# Altium schematic symbol library MC33039.SchLib: 1 symbol
Pins are listed as number, name and electrical type; pins without a type are passive.

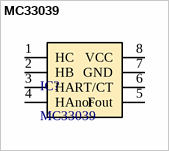
[diagram p0: symbol MC33039]

## MC33039
designator IC?
footprint MC33039
pins: 1 HC, 2 HB, 3 HA, 4 HAnot, 5 Fout, 6 RT/CT, 7 GND, 8 VCC